# Altium footprint library EISI.PcbLib: 695 footprints (part 7 of 44)
Each footprint in its own frame and in the unit in brackets; x right, y up, seen from the top. Pads: shape width x height; smd on the part's side, far side on the other; paste and mask are expansions set on the pad; w line width, h text height; cw(c..) or ccw(c..) is an arc to the next point about the centre after c.
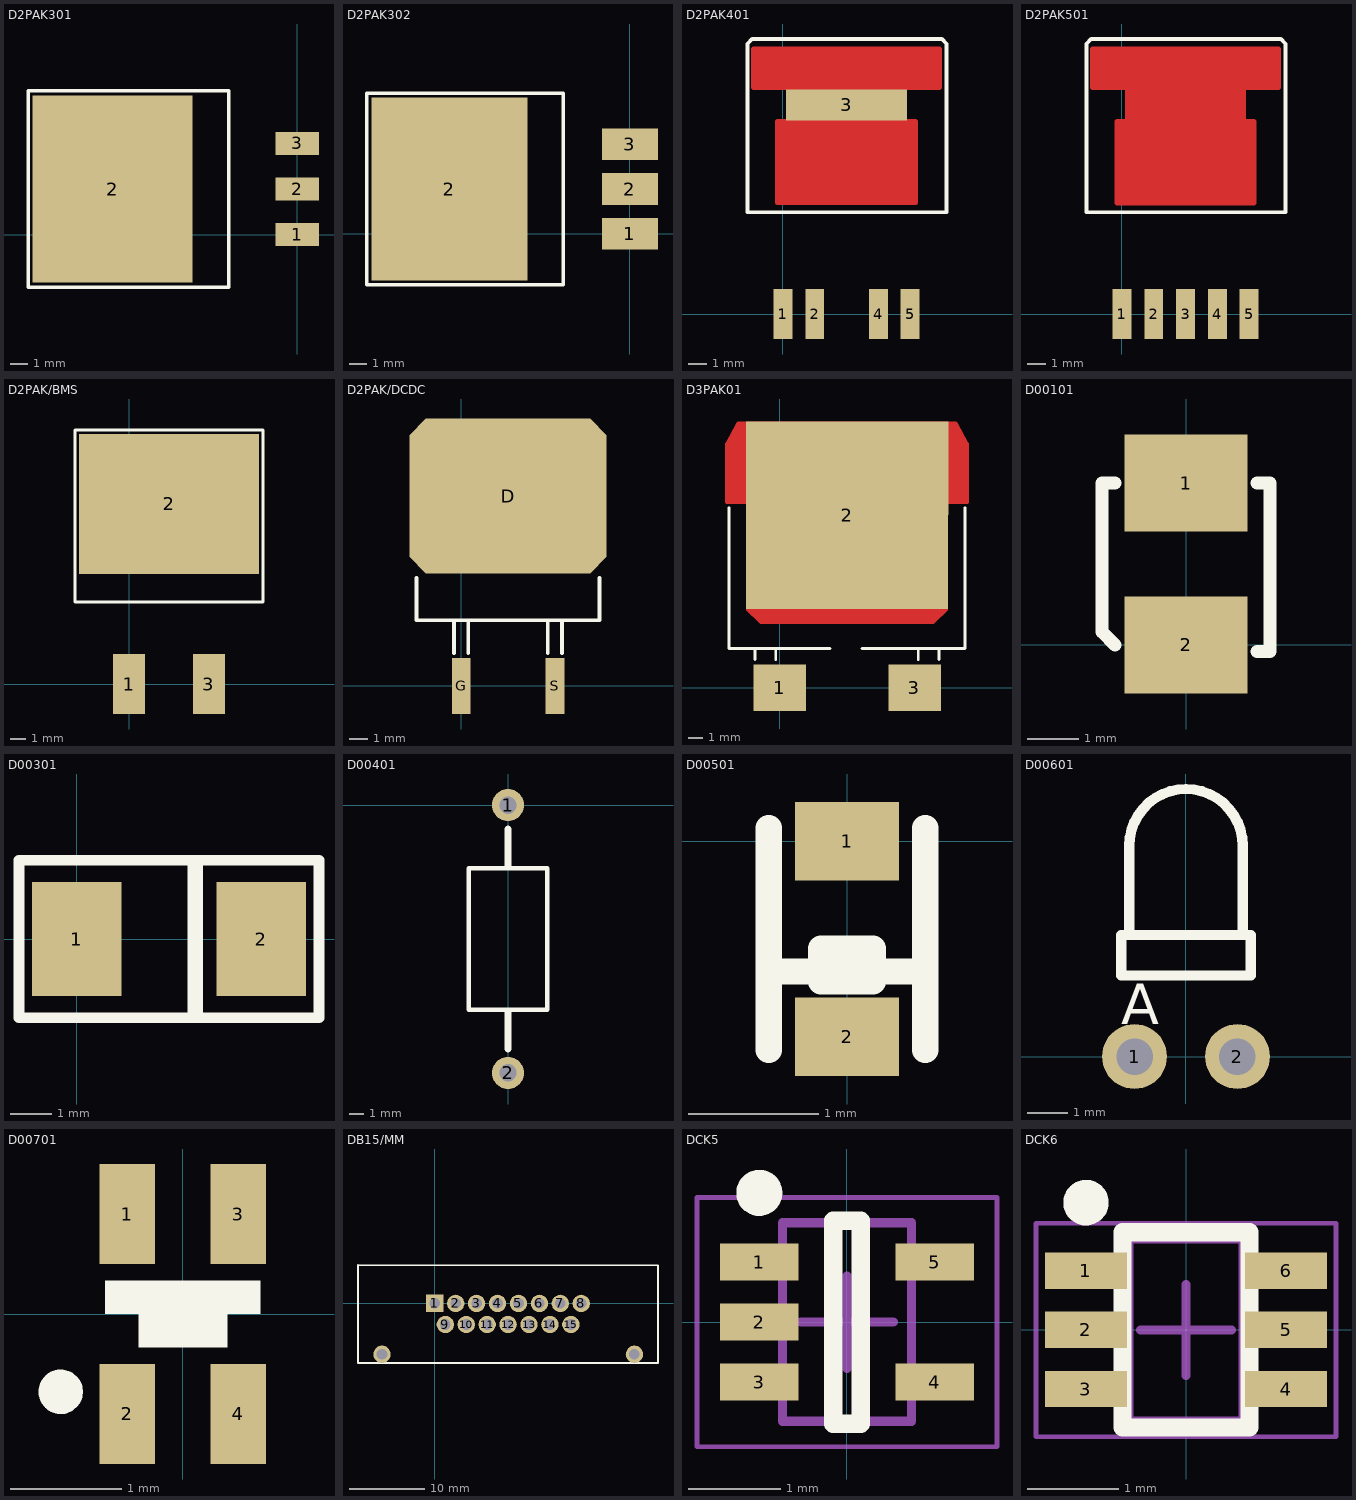
[diagram p6: the footprints below, top view; thin cyan lines are the x and y axes]

## D2PAK301 [mil]
pads (4):
  rect 95x50 smd: 1(0,0) 2(0,100) 3(0,200)
  rect 350x410 smd: 2(-405,100)
TopOverlay:
  lines w7.87: -590,-115 -150,-115 -150,315 -590,315 -590,-115
TopPaste:
  lines w20: -525,-80 -525,280 ; -520,25 -275,25 -275,175 -510,175 -510,40 -285,40 -285,160 -495,160 -495,50 -300,50 -300,145 -480,145 -480,65 -310,65 -310,130 -465,130 -465,80 -320,80 -320,115 -455,115 -455,100 -335,100 -335,95 -460,95 ; -537,-90 -510,-90 -510,10 -260,10 -260,190 -510,190 -510,290 -537,290 -537,-90

## D2PAK302 [mm]
pads (4):
  rect 3.2x1.8 smd: 1(0,0) 2(0,2.54) 3(0,5.08)
  rect 8.89x10.414 smd: 2(-10.287,2.54)
TopOverlay:
  lines w0.2: -14.986,-2.921 -14.986,8.001 -3.81,8.001 -3.81,-2.921 -14.986,-2.921
TopPaste:
  lines w0.508: -13.335,-2.032 -13.335,7.112 ; -13.208,0.635 -6.985,0.635 -6.985,4.445 -12.954,4.445 -12.954,1.016 -7.239,1.016 -7.239,4.064 -12.573,4.064 -12.573,1.27 -7.62,1.27 -7.62,3.683 -12.192,3.683 -12.192,1.651 -7.874,1.651 -7.874,3.302 -11.811,3.302 -11.811,2.032 -8.128,2.032 -8.128,2.921 -11.557,2.921 -11.557,2.54 -8.509,2.54 -8.509,2.413 -11.684,2.413 ; -13.64,-2.286 -13.64,7.366 -12.954,7.366 -12.954,4.826 -6.604,4.826 -6.604,0.254 -12.954,0.254 -12.954,-2.286 -13.64,-2.286

## D2PAK401 [mil]
pads (5):
  rect 40x105 smd: 1(0,0) 2(67,0) 4(201,0) 5(268,0)
  rect 256x65 smd: 3(134,441)
TopLayer:
  lines w10: -62,478 11,478 11,406 -12,406 -12,235 280,235 280,406 257,406 257,478 330,478 330,559 -62,559 -62,478
  lines w30: -33,519 303,519 ; 25,383 25,276 244,276 244,415 ; 31,498 234,498 234,479 48,479 ; 41,400 221,400 221,300 40,300 40,380 200,380 200,324 69,324 ; 63,314 63,360 183,360 183,340 64,340 ; 244,459 244,493 318,493 318,546 -47,546 -47,494 25,494 25,393 3,393 3,249 266,249 266,391
TopOverlay:
  lines w7.87: -75,215 -75,570 -65,580 335,580 345,570 345,215 -75,215
TopPaste:
  lines w10: 242,521 18,521 18,246 248,246 248,521 ; 11,239 257,239 257,527 11,527 11,239
  lines w30: 151,452 151,343 126,343 126,447 102,447 102,331 173,331 173,466 77,466 77,310 193,310 193,486 57,486 57,286 215,286 215,501 ; 218,507 33,507 33,263 236,263 236,510
TopSolder:
  lines w10: -64,476 9,476 9,408 -13,408 -13,232 281,232 281,408 259,408 259,475 332,475 332,561 -64,561 -64,476
  lines w30: -54,547 319,547 319,487 253,487 -49,487 -49,528 ; -43,523 308,523 308,507 -36,507 ; -1,396 267,396 267,246 0,246 0,383 ; 14,374 249,374 249,265 19,265 19,352 229,352 229,288 40,288 ; 213,330 36,330 36,309 215,309

## D2PAK501 [mil]
pads (5):
  rect 40x105 smd: 1(0,0) 2(67,0) 3(134,0) 4(201,0) 5(268,0)
TopLayer:
  lines w10: -62,477 11,477 11,406 -11,406 -11,234 279,234 279,406 257,406 257,477 330,477 330,559 -62,559 -62,477
  lines w30: -50,544 317,544 317,492 243,492 243,395 265,395 265,247 3,247 3,392 26,392 26,490 -47,490 -47,535 ; -48,517 301,517 ; 12,269 242,269 ; 21,377 248,377 248,361 23,361 23,334 243,334 243,316 22,316 22,292 251,292 ; 45,383 45,501 ; 57,424 210,424 210,447 69,447 69,469 209,469 209,493 57,493 ; 62,402 219,402 ; 223,388 223,505
TopOverlay:
  lines w7.87: -75,215 345,215 345,570 335,580 -65,580 -75,570 -75,215
TopPaste:
  lines w10: 11,239 11,528 257,528 257,239 11,239
  lines w30: 25,515 243,515 243,253 26,253 26,505 ; 53,502 53,276 217,276 217,490 79,490 79,299 192,299 192,473 ; 99,489 99,314 119,314 119,473 143,473 143,320 168,320 168,477
TopSolder:
  lines w10: -62,477 -62,559 330,559 330,477 257,477 257,406 279,406 279,234 -11,234 -11,406 11,406 11,477 -62,477
  lines w30: -50,544 317,544 317,492 243,492 243,395 265,395 265,247 3,247 3,392 26,392 26,490 -47,490 -47,535 ; -48,517 301,517 ; 12,269 242,269 ; 21,377 248,377 248,361 23,361 23,334 243,334 243,316 22,316 22,292 251,292 ; 45,383 45,501 ; 57,424 210,424 210,447 69,447 69,469 209,469 209,493 57,493 ; 62,402 219,402 ; 223,388 223,505

## D2PAK/BMS [mil]
pads (3):
  rect 80x150 smd: 1(0,0) 3(200,0)
  rect 450x350 smd: 2(100,450)
TopOverlay:
  lines w7.87: -135,205 -135,635 335,635 335,205 -135,205

## D2PAK/DCDC [mil]
pads (9):
  rect 350x330 smd: D(100,405)
  rect 40x120 smd: G(0,0) S(200,0)
  rect 50x260 smd: ""(-85,405) ""(285,405)
  rect 50x50 smd rot 45: ""(-75,275) ""(-75,535) ""(275,275) ""(275,535)
TopOverlay:
  lines w7.87: -95,230 -95,140 295,140 295,230 ; -15,70 -15,140 ; 15,70 15,140 ; 185,70 185,140 ; 215,70 215,140

## D3PAK01 [mil]
pads (3):
  rect 140x125 smd: 1(0,0) 3(360,0)
  rect 540x500 smd: 2(180,460)
TopLayer:
  lines w10: -140,495 -85,495 -85,210 -50,175 410,175 445,210 445,495 500,495 500,650 470,705 -110,705 -140,650 -140,495
  lines w20: -115,500 -115,670 ; -105,695 -130,645 -130,505 -95,505 -95,695 -85,695 ; -70,210 -45,185 405,185 435,215 ; -65,210 415,210 ; -55,200 410,200 ; 445,695 465,695 490,645 490,505 455,505 455,685 ; 470,515 470,675
MidLayer14:
  rectangle: 250,180 330,205
  rectangle: 30,180 110,205
  rectangle: 290,580 370,620
  rectangle: -10,580 70,620
TopOverlay:
  lines w7.87: -135,480 -135,105 ; -65,75 -65,105 ; -10,75 -10,105 ; 370,75 370,105 ; 425,75 425,105 ; 495,480 495,105 ; -135,105 135,105 -135,105 ; 495,105 220,105 495,105
TopPaste:
  lines w10: -84,499 -136,499 -136,649 -107,701 -83,701 ; -81,217 -81,213 -47,179 407,179 441,213 441,217 ; 427,499 496,499 496,648 467,701 443,701
  lines w20: -107,516 -107,674 ; -105,688 -123,648 -123,509 -91,509 -91,694 ; -68,216 -43,191 408,191 433,216 ; -57,208 419,208 ; 444,512 486,512 486,644 460,691 453,691 453,525 467,525 467,659
TopSolder:
  lines w10: -140,495 -85,495 -85,210 -50,175 410,175 445,210 445,495 500,495 500,650 470,705 -110,705 -140,650 -140,495
  lines w20: -115,500 -115,670 ; -105,695 -130,645 -130,505 -95,505 -95,695 -85,695 ; -70,210 -45,185 405,185 435,215 ; -65,210 415,210 ; -55,200 410,200 ; 445,695 465,695 490,645 490,505 455,505 455,685 ; 470,515 470,675

## D00101 [mil]
pads (4):
  rect 95x75 smd: 1(0,125) 2(0,0)
  rect 95x63 on Top Paste: ""(0,-6) ""(0,131)
TopOverlay:
  lines w10: -55,0 -65,10 -65,19.68 -65,125 -55,125 ; 55,-5 65,-5 65,125 55,125

## D00301 [mil]
pads (2):
  rect 85x107.99 smd: 1(0,0) 2(175,0)
TopOverlay:
  lines w10: 110,-75 110,75 ; 115,-75 115,75 115,70 115,-70 ; -55,-75 -55,75 65,75 230,75 230,-75 65,-75 -55,-75

## D00401 [mil]
pads (2):
  round 86 hole 47: 1(0,0) 2(0,-720)
TopOverlay:
  lines w12: -105,-550 105,-550 105,-170 -105,-170 -105,-550
  lines w20: 0,-655 0,-560 ; 0,-165 0,-65

## D00501 [mm]
pads (2):
  rect 0.8x0.6 smd: 1(0,0) 2(0,-1.5)
TopOverlay:
  lines w0.2: -0.6,-1.6 -0.6,0.1 ; -0.6,-1 -0.2,-1 ; -0.3,-1 0.2,-1 ; 0.2,-0.875 0.2,-1.075 -0.2,-1.075 -0.2,-1 ; 0.6,-1.6 0.6,0.1 ; 0.6,-1 0.2,-1 ; -0.2,-1 -0.2,-0.825 0.2,-0.825 0.2,-1

## D00601 [mm] "Led 3mm couchée"
pads (2):
  round 1.6 hole 0.9: 1(-1.27,0) 2(1.27,0)
TopOverlay:
  lines w0.254: -1.4,3 -1.4,5.2 cw(c0,5.2) 1.4,5.2 1.4,3 ; -1.6,2 -1.6,3 1.6,3 1.6,2 -1.6,2
  text "A" at -1.6,0.8 h1

## D00701 [mm] "LED RED/GREEN BI-COLOR SMD 1.5x1.6mm"
height 0.7
pads (4):
  rect 0.5x0.9 smd: 1(-0.5,0.9) 2(-0.5,-0.9) 3(0.5,0.9) 4(0.5,-0.9)
TopOverlay:
  circle w0.2: c-1.1,-0.7 r0.1
  rectangle: -0.4,-0.3 0.4,0
  rectangle: -0.7,0 0.7,0.3

## DB15/MM [mm]
pads (17):
  rect 2.3x2.3 hole 1.4 unplated: 1(0,0)
  round 2.3 hole 1.4 unplated: 2(2.769,0) 3(5.537,0) 4(8.306,0) 5(11.074,0) 6(13.843,0) 7(16.612,0) 8(19.38,0) 9(1.397,-2.794) 10(4.166,-2.794) 11(6.934,-2.794) 12(9.703,-2.794) 13(12.471,-2.794) 14(15.24,-2.794) 15(18.009,-2.794) ""(-6.985,-6.731) ""(26.416,-6.731)
TopOverlay:
  lines w0.2: -10.16,5.08 29.54,5.08 29.54,-7.874
  lines w0.254: -10.16,5.08 -10.16,-7.874 29.54,-7.874

## DCK5 [mm] "SOT353, 5-Leads, Body 2x1.3mm, Pitch 0.65mm, Lead Span 2.1mm, IPC Medium Density"
height 1.1
pads (5):
  rect 0.85x0.4 smd: 1(-0.95,0.65) 2(-0.95,0) 3(-0.95,-0.65) 4(0.95,-0.65) 5(0.95,0.65)
TopOverlay:
  circle w0.25: c-0.95,1.4 r0.125
  lines w0.2: -0.15,-1.1 0.15,-1.1 0.15,1.1 -0.15,1.1 -0.15,-1.1
Mechanical13:
  lines w0.1: -0.7,-1.075 -0.7,1.075 0.7,1.075 0.7,-1.075 -0.7,-1.075
Mechanical15:
  lines w0.05: -1.625,-1.35 -1.625,1.35 1.625,1.35 1.625,-1.35 -1.625,-1.35
  lines w0.1: -0.5,0 0.5,0 ; 0,-0.5 0,0.5
3D body: height 1.1, standoff 0, extent -0.7,-1.075 0.7,1.075

## DCK6 [mm] "SOT23, 6-Leads, Body 2x1.25mm, Pitch 0.65mm"
height 1.1
pads (6):
  rect 0.9x0.4 smd: 1(-1.1,0.65) 2(-1.1,0) 3(-1.1,-0.65) 4(1.1,-0.65) 5(1.1,0) 6(1.1,0.65)
TopOverlay:
  circle w0.25: c-1.1,1.4 r0.125
  lines w0.2: -0.7,-1.075 0.7,-1.075 0.7,1.075 -0.7,1.075 -0.7,-1.075
Mechanical13:
  lines w0.1: -0.625,-1 -0.625,1 0.625,1 0.625,-1 -0.625,-1
Mechanical15:
  lines w0.05: -1.65,-1.175 -1.65,1.175 1.65,1.175 1.65,-1.175 -1.65,-1.175
  lines w0.1: -0.5,0 0.5,0 ; 0,-0.5 0,0.5
3D body: height 1.1, standoff 0, extent -0.625,-1 0.625,1